# Altium footprint library WE-PLC.PcbLib: 1 footprints
Each footprint in its own frame and in the unit in brackets; x right, y up, seen from the top. Pads: shape width x height; smd on the part's side, far side on the other; paste and mask are expansions set on the pad; w line width, h text height; cw(c..) or ccw(c..) is an arc to the next point about the centre after c.
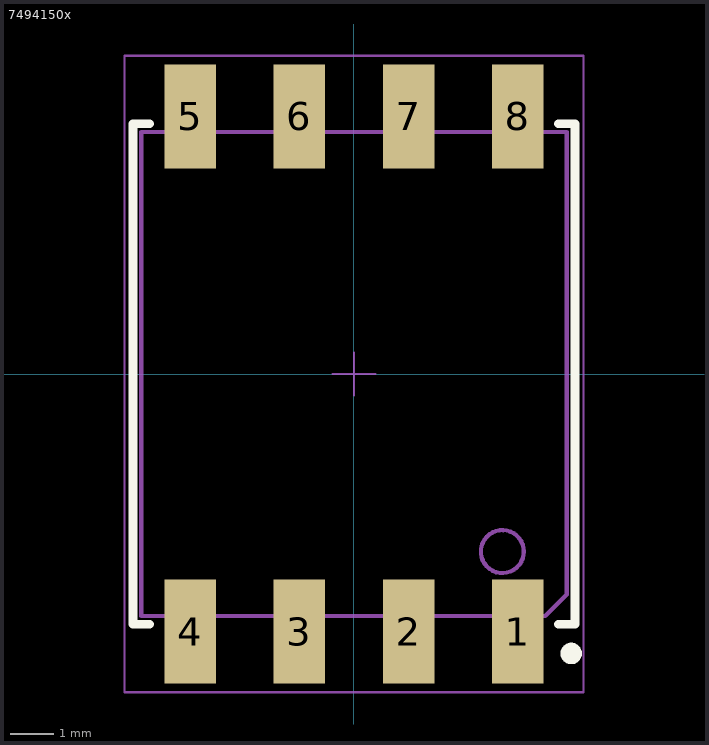
[diagram p0: the footprint, top view; thin cyan lines are the x and y axes]

## 7494150x [mm] "SMT transformer 1 channel, body 13.60x9.90mm"
height 7.4
pads (8):
  rect 1.2x2.42 smd: 1(3.81,-5.99) 2(1.27,-5.99) 3(-1.27,-5.99) 4(-3.81,-5.99) 5(-3.81,5.99) 6(-1.27,5.99) 7(1.27,5.99) 8(3.81,5.99)
Top Overlay:
  circle w0.25: c5.05,-6.5 r0.125
  lines w0.2: -4.75,-5.82 -5.14,-5.82 -5.14,5.82 -4.75,5.82 ; 4.75,-5.82 5.14,-5.82 5.14,5.82 4.75,5.82
Top Component Outline:
  circle w0.1: c3.45,-4.13 r0.5
  lines w0.1: -4.11,-5.63 -4.11,-6.8 -3.51,-6.8 -3.51,-5.63 ; -4.11,5.63 -4.11,6.8 -3.51,6.8 -3.51,5.63 ; -1.57,-5.63 -1.57,-6.8 -0.97,-6.8 -0.97,-5.63 ; -1.57,5.63 -1.57,6.8 -0.97,6.8 -0.97,5.63 ; 0.97,-5.63 0.97,-6.8 1.57,-6.8 1.57,-5.63 ; 0.97,5.63 0.97,6.8 1.57,6.8 1.57,5.63 ; 3.51,-5.63 3.51,-6.8 4.11,-6.8 4.11,-5.63 ; 3.51,5.63 3.51,6.8 4.11,6.8 4.11,5.63 ; -4.95,-5.63 -4.95,5.63 4.95,5.63 4.95,-5.13 4.45,-5.63 -4.95,-5.63
Top Courtyard:
  lines w0.05: -5.34,-7.4 -5.34,7.4 5.34,7.4 5.34,-7.4 -5.34,-7.4
Top Component Center:
  lines w0.05: -0.5,0 0.5,0 ; 0,-0.5 0,0.5
Top Designator (Mech19):
  text ".Designator" at -7.51,-0.513 h1.5
3D body "7494150X.stp": height 7.42, standoff 0.02, extent -4.95,-6.8 4.95,6.8